# Altium integrated library ST Memory EEPROM Serial.IntLib: 637 symbols (part 9 of 9)
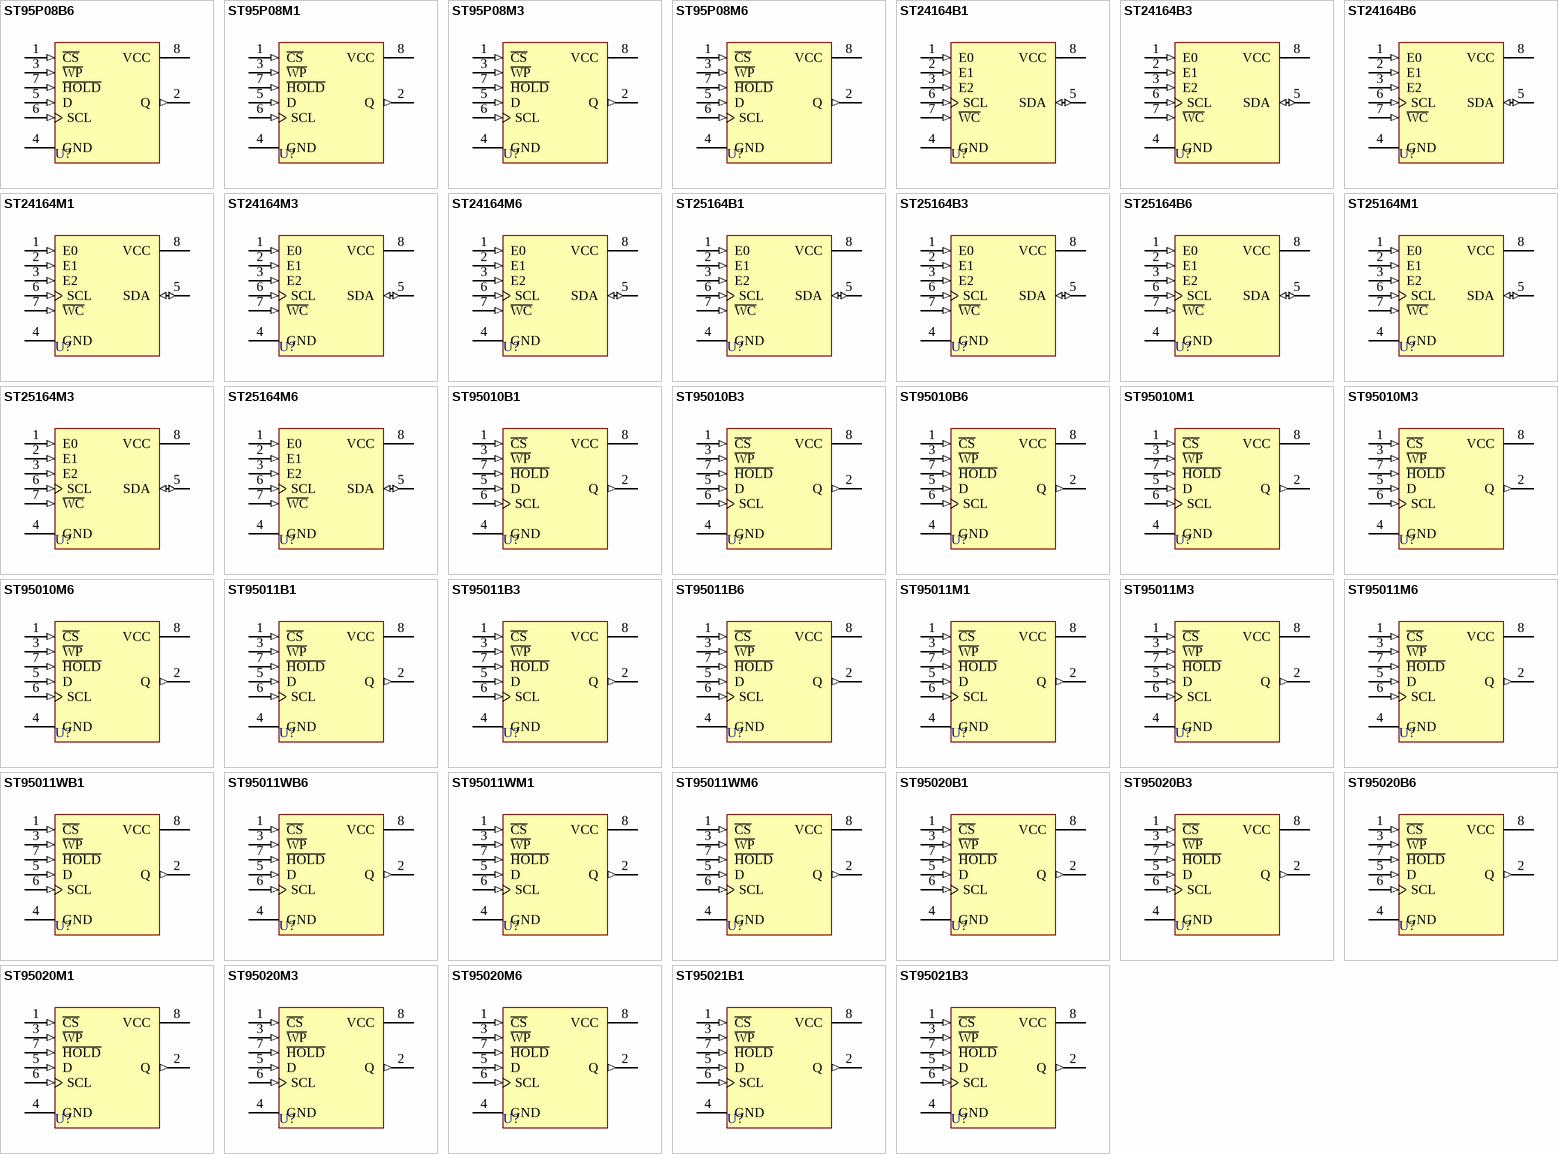
[diagram p23: symbols ST95P08B6 to ST95021B3]

## ST95020M6
designator U?
2K Serial SPI EEPROM with Positive Clock Strobe; Published: 24-Aug-2001; LatestRevisionDate: 6-Jun-2005; LatestRevisionNote: Stylized 3D Model Added.; DatasheetDocument: Jun-1998; PackageDocument: Jul-1999; PackageReference: SOP8; Publisher: Altium Limited; ComponentLink1Description: Manufacturer Link; ComponentLink1URL: http://www.st.com/
footprint SOP8 (Small Outline; 8 Leads; Body Width 3.9 mm; Pitch 1.27 mm)
3D model SOP8 (Small Outline; 8 Leads; Body Width 3.9 mm; Pitch 1.27 mm)
pins: 1 ~{CS} (in), 2 Q (out), 3 ~{WP} (in), 4 GND (power), 5 D (in), 6 SCL (in), 7 ~{HOLD} (in), 8 VCC (power)

## ST95021B1
designator U?
2K Serial SPI EEPROM with Negative Clock Strobe; Published: 24-Aug-2001; LatestRevisionDate: 6-Jun-2005; LatestRevisionNote: Stylized 3D Model Added.; DatasheetDocument: Feb-1997; PackageDocument: Jun-1998; PackageReference: PSDIP8A; Publisher: Altium Limited; ComponentLink1Description: Manufacturer Link; ComponentLink1URL: http://www.st.com/
footprint PSDIP8A (DIP; 8 Leads; Row Spacing 7.62 mm; Pitch 2.54 mm)
3D model PSDIP8A (DIP; 8 Leads; Row Spacing 7.62 mm; Pitch 2.54 mm)
pins: 1 ~{CS} (in), 2 Q (out), 3 ~{WP} (in), 4 GND (power), 5 D (in), 6 SCL (in), 7 ~{HOLD} (in), 8 VCC (power)

## ST95021B3
designator U?
2K Serial SPI EEPROM with Negative Clock Strobe; Published: 24-Aug-2001; LatestRevisionDate: 6-Jun-2005; LatestRevisionNote: Stylized 3D Model Added.; DatasheetDocument: Feb-1997; PackageDocument: Jun-1998; PackageReference: PSDIP8A; Publisher: Altium Limited; ComponentLink1Description: Manufacturer Link; ComponentLink1URL: http://www.st.com/
footprint PSDIP8A (DIP; 8 Leads; Row Spacing 7.62 mm; Pitch 2.54 mm)
3D model PSDIP8A (DIP; 8 Leads; Row Spacing 7.62 mm; Pitch 2.54 mm)
pins: 1 ~{CS} (in), 2 Q (out), 3 ~{WP} (in), 4 GND (power), 5 D (in), 6 SCL (in), 7 ~{HOLD} (in), 8 VCC (power)

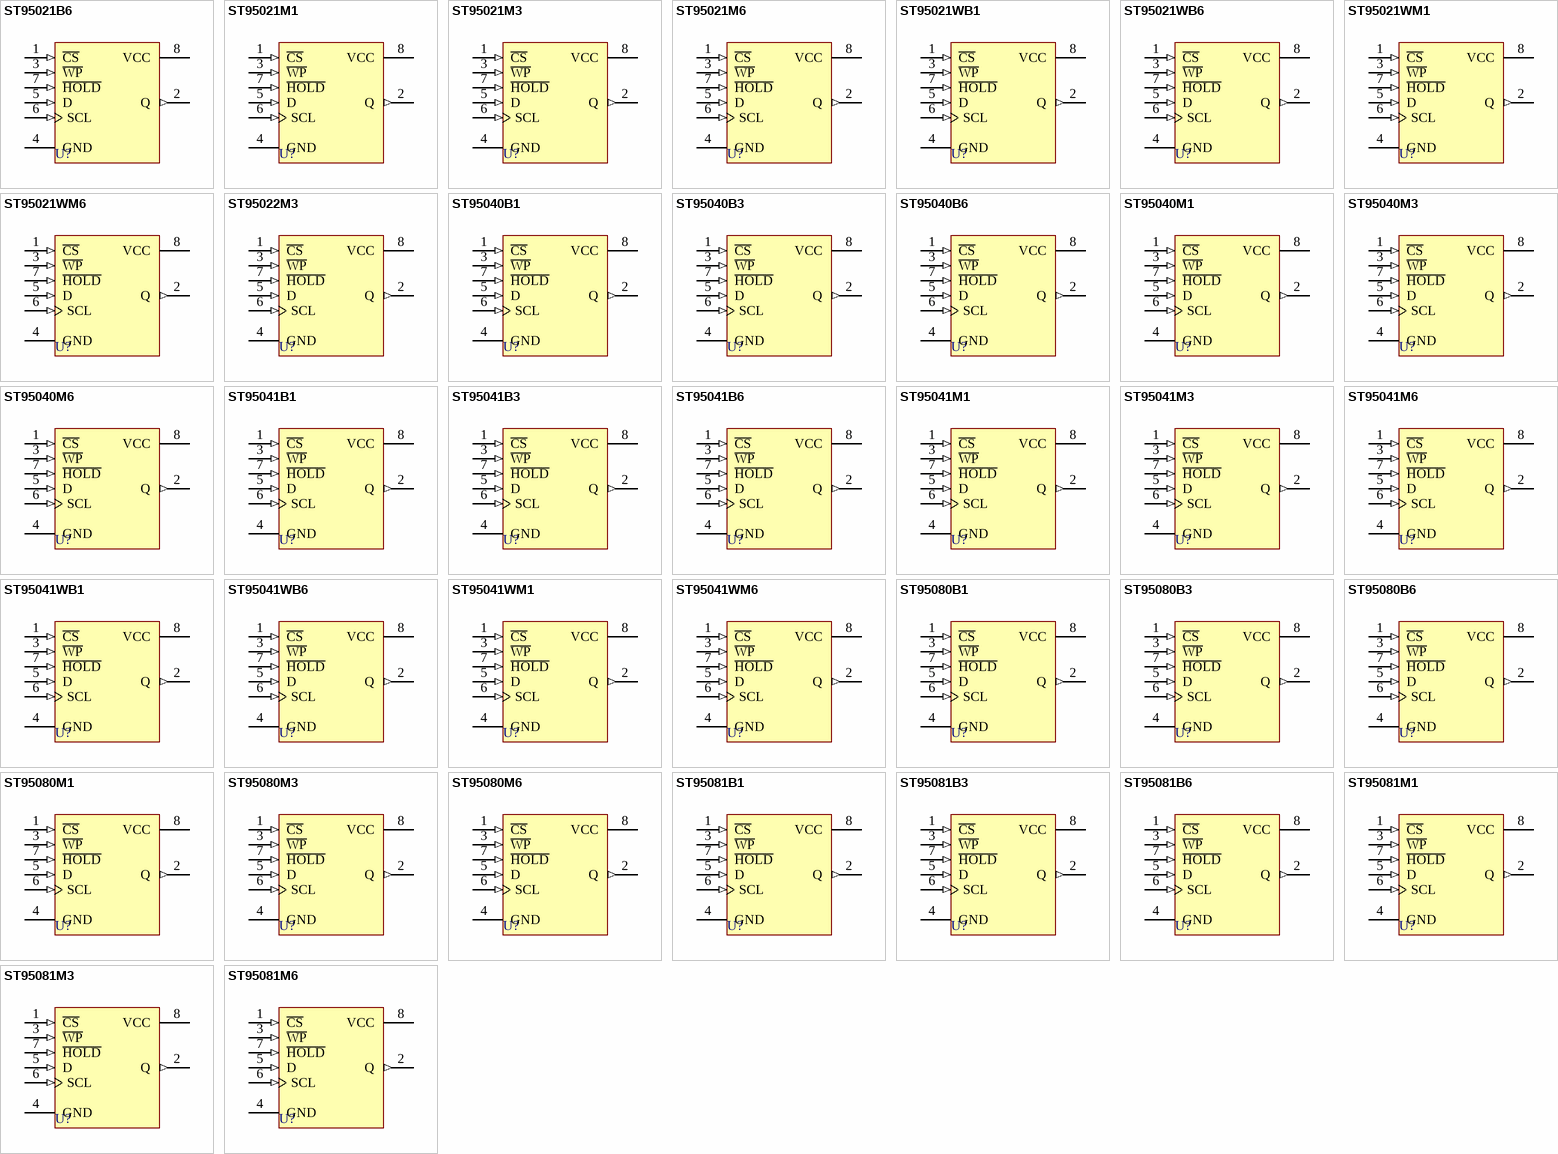
[diagram p15: symbols ST95021B6 to ST95081M6]

## ST95021B6
designator U?
2K Serial SPI EEPROM with Negative Clock Strobe; Published: 24-Aug-2001; LatestRevisionDate: 6-Jun-2005; LatestRevisionNote: Stylized 3D Model Added.; DatasheetDocument: Feb-1997; PackageDocument: Jun-1998; PackageReference: PSDIP8A; Publisher: Altium Limited; ComponentLink1Description: Manufacturer Link; ComponentLink1URL: http://www.st.com/
footprint PSDIP8A (DIP; 8 Leads; Row Spacing 7.62 mm; Pitch 2.54 mm)
3D model PSDIP8A (DIP; 8 Leads; Row Spacing 7.62 mm; Pitch 2.54 mm)
pins: 1 ~{CS} (in), 2 Q (out), 3 ~{WP} (in), 4 GND (power), 5 D (in), 6 SCL (in), 7 ~{HOLD} (in), 8 VCC (power)

## ST95021M1
designator U?
2K Serial SPI EEPROM with Negative Clock Strobe; Published: 24-Aug-2001; LatestRevisionDate: 6-Jun-2005; LatestRevisionNote: Stylized 3D Model Added.; DatasheetDocument: Feb-1997; PackageDocument: Jul-1999; PackageReference: SOP8; Publisher: Altium Limited; ComponentLink1Description: Manufacturer Link; ComponentLink1URL: http://www.st.com/
footprint SOP8 (Small Outline; 8 Leads; Body Width 3.9 mm; Pitch 1.27 mm)
3D model SOP8 (Small Outline; 8 Leads; Body Width 3.9 mm; Pitch 1.27 mm)
pins: 1 ~{CS} (in), 2 Q (out), 3 ~{WP} (in), 4 GND (power), 5 D (in), 6 SCL (in), 7 ~{HOLD} (in), 8 VCC (power)

## ST95021M3
designator U?
2K Serial SPI EEPROM with Negative Clock Strobe; Published: 24-Aug-2001; LatestRevisionDate: 6-Jun-2005; LatestRevisionNote: Stylized 3D Model Added.; DatasheetDocument: Feb-1997; PackageDocument: Jul-1999; PackageReference: SOP8; Publisher: Altium Limited; ComponentLink1Description: Manufacturer Link; ComponentLink1URL: http://www.st.com/
footprint SOP8 (Small Outline; 8 Leads; Body Width 3.9 mm; Pitch 1.27 mm)
3D model SOP8 (Small Outline; 8 Leads; Body Width 3.9 mm; Pitch 1.27 mm)
pins: 1 ~{CS} (in), 2 Q (out), 3 ~{WP} (in), 4 GND (power), 5 D (in), 6 SCL (in), 7 ~{HOLD} (in), 8 VCC (power)

## ST95021M6
designator U?
2K Serial SPI EEPROM with Negative Clock Strobe; Published: 24-Aug-2001; LatestRevisionDate: 6-Jun-2005; LatestRevisionNote: Stylized 3D Model Added.; DatasheetDocument: Feb-1997; PackageDocument: Jul-1999; PackageReference: SOP8; Publisher: Altium Limited; ComponentLink1Description: Manufacturer Link; ComponentLink1URL: http://www.st.com/
footprint SOP8 (Small Outline; 8 Leads; Body Width 3.9 mm; Pitch 1.27 mm)
3D model SOP8 (Small Outline; 8 Leads; Body Width 3.9 mm; Pitch 1.27 mm)
pins: 1 ~{CS} (in), 2 Q (out), 3 ~{WP} (in), 4 GND (power), 5 D (in), 6 SCL (in), 7 ~{HOLD} (in), 8 VCC (power)

## ST95021WB1
designator U?
2K Serial SPI EEPROM with Negative Clock Strobe; Published: 24-Aug-2001; LatestRevisionDate: 6-Jun-2005; LatestRevisionNote: Stylized 3D Model Added.; DatasheetDocument: Feb-1997; PackageDocument: Jun-1998; PackageReference: PSDIP8A; Publisher: Altium Limited; ComponentLink1Description: Manufacturer Link; ComponentLink1URL: http://www.st.com/
footprint PSDIP8A (DIP; 8 Leads; Row Spacing 7.62 mm; Pitch 2.54 mm)
3D model PSDIP8A (DIP; 8 Leads; Row Spacing 7.62 mm; Pitch 2.54 mm)
pins: 1 ~{CS} (in), 2 Q (out), 3 ~{WP} (in), 4 GND (power), 5 D (in), 6 SCL (in), 7 ~{HOLD} (in), 8 VCC (power)

## ST95021WB6
designator U?
2K Serial SPI EEPROM with Negative Clock Strobe; Published: 24-Aug-2001; LatestRevisionDate: 6-Jun-2005; LatestRevisionNote: Stylized 3D Model Added.; DatasheetDocument: Feb-1997; PackageDocument: Jun-1998; PackageReference: PSDIP8A; Publisher: Altium Limited; ComponentLink1Description: Manufacturer Link; ComponentLink1URL: http://www.st.com/
footprint PSDIP8A (DIP; 8 Leads; Row Spacing 7.62 mm; Pitch 2.54 mm)
3D model PSDIP8A (DIP; 8 Leads; Row Spacing 7.62 mm; Pitch 2.54 mm)
pins: 1 ~{CS} (in), 2 Q (out), 3 ~{WP} (in), 4 GND (power), 5 D (in), 6 SCL (in), 7 ~{HOLD} (in), 8 VCC (power)

## ST95021WM1
designator U?
2K Serial SPI EEPROM with Negative Clock Strobe; Published: 24-Aug-2001; LatestRevisionDate: 6-Jun-2005; LatestRevisionNote: Stylized 3D Model Added.; DatasheetDocument: Feb-1997; PackageDocument: Jul-1999; PackageReference: SOP8; Publisher: Altium Limited; ComponentLink1Description: Manufacturer Link; ComponentLink1URL: http://www.st.com/
footprint SOP8 (Small Outline; 8 Leads; Body Width 3.9 mm; Pitch 1.27 mm)
3D model SOP8 (Small Outline; 8 Leads; Body Width 3.9 mm; Pitch 1.27 mm)
pins: 1 ~{CS} (in), 2 Q (out), 3 ~{WP} (in), 4 GND (power), 5 D (in), 6 SCL (in), 7 ~{HOLD} (in), 8 VCC (power)

## ST95021WM6
designator U?
2K Serial SPI EEPROM with Negative Clock Strobe; Published: 24-Aug-2001; LatestRevisionDate: 6-Jun-2005; LatestRevisionNote: Stylized 3D Model Added.; DatasheetDocument: Feb-1997; PackageDocument: Jul-1999; PackageReference: SOP8; Publisher: Altium Limited; ComponentLink1Description: Manufacturer Link; ComponentLink1URL: http://www.st.com/
footprint SOP8 (Small Outline; 8 Leads; Body Width 3.9 mm; Pitch 1.27 mm)
3D model SOP8 (Small Outline; 8 Leads; Body Width 3.9 mm; Pitch 1.27 mm)
pins: 1 ~{CS} (in), 2 Q (out), 3 ~{WP} (in), 4 GND (power), 5 D (in), 6 SCL (in), 7 ~{HOLD} (in), 8 VCC (power)

## ST95022M3
designator U?
2Kbit Serial SPI EEPROM with High Speed Clock; Published: 24-Aug-2001; LatestRevisionDate: 6-Jun-2005; LatestRevisionNote: Stylized 3D Model Added.; DatasheetDocument: Oct-1997; PackageDocument: Jul-1999; PackageReference: SOP8; Publisher: Altium Limited; ComponentLink1Description: Manufacturer Link; ComponentLink1URL: http://www.st.com/
footprint SOP8 (Small Outline; 8 Leads; Body Width 3.9 mm; Pitch 1.27 mm)
3D model SOP8 (Small Outline; 8 Leads; Body Width 3.9 mm; Pitch 1.27 mm)
pins: 1 ~{CS} (in), 2 Q (out), 3 ~{WP} (in), 4 GND (power), 5 D (in), 6 SCL (in), 7 ~{HOLD} (in), 8 VCC (power)

## ST95040B1
designator U?
4K Serial SPI EEPROM with Positive Clock Strobe; Published: 24-Aug-2001; LatestRevisionDate: 6-Jun-2005; LatestRevisionNote: Stylized 3D Model Added.; DatasheetDocument: Jun-1998; PackageDocument: Jun-1998; PackageReference: PSDIP8A; Publisher: Altium Limited; ComponentLink1Description: Manufacturer Link; ComponentLink1URL: http://www.st.com/
footprint PSDIP8A (DIP; 8 Leads; Row Spacing 7.62 mm; Pitch 2.54 mm)
3D model PSDIP8A (DIP; 8 Leads; Row Spacing 7.62 mm; Pitch 2.54 mm)
pins: 1 ~{CS} (in), 2 Q (out), 3 ~{WP} (in), 4 GND (power), 5 D (in), 6 SCL (in), 7 ~{HOLD} (in), 8 VCC (power)

## ST95040B3
designator U?
4K Serial SPI EEPROM with Positive Clock Strobe; Published: 24-Aug-2001; LatestRevisionDate: 6-Jun-2005; LatestRevisionNote: Stylized 3D Model Added.; DatasheetDocument: Jun-1998; PackageDocument: Jun-1998; PackageReference: PSDIP8A; Publisher: Altium Limited; ComponentLink1Description: Manufacturer Link; ComponentLink1URL: http://www.st.com/
footprint PSDIP8A (DIP; 8 Leads; Row Spacing 7.62 mm; Pitch 2.54 mm)
3D model PSDIP8A (DIP; 8 Leads; Row Spacing 7.62 mm; Pitch 2.54 mm)
pins: 1 ~{CS} (in), 2 Q (out), 3 ~{WP} (in), 4 GND (power), 5 D (in), 6 SCL (in), 7 ~{HOLD} (in), 8 VCC (power)

## ST95040B6
designator U?
4K Serial SPI EEPROM with Positive Clock Strobe; Published: 24-Aug-2001; LatestRevisionDate: 6-Jun-2005; LatestRevisionNote: Stylized 3D Model Added.; DatasheetDocument: Jun-1998; PackageDocument: Jun-1998; PackageReference: PSDIP8A; Publisher: Altium Limited; ComponentLink1Description: Manufacturer Link; ComponentLink1URL: http://www.st.com/
footprint PSDIP8A (DIP; 8 Leads; Row Spacing 7.62 mm; Pitch 2.54 mm)
3D model PSDIP8A (DIP; 8 Leads; Row Spacing 7.62 mm; Pitch 2.54 mm)
pins: 1 ~{CS} (in), 2 Q (out), 3 ~{WP} (in), 4 GND (power), 5 D (in), 6 SCL (in), 7 ~{HOLD} (in), 8 VCC (power)

## ST95040M1
designator U?
4K Serial SPI EEPROM with Positive Clock Strobe; Published: 24-Aug-2001; LatestRevisionDate: 6-Jun-2005; LatestRevisionNote: Stylized 3D Model Added.; DatasheetDocument: Jun-1998; PackageDocument: Jul-1999; PackageReference: SOP8; Publisher: Altium Limited; ComponentLink1Description: Manufacturer Link; ComponentLink1URL: http://www.st.com/
footprint SOP8 (Small Outline; 8 Leads; Body Width 3.9 mm; Pitch 1.27 mm)
3D model SOP8 (Small Outline; 8 Leads; Body Width 3.9 mm; Pitch 1.27 mm)
pins: 1 ~{CS} (in), 2 Q (out), 3 ~{WP} (in), 4 GND (power), 5 D (in), 6 SCL (in), 7 ~{HOLD} (in), 8 VCC (power)

## ST95040M3
designator U?
4K Serial SPI EEPROM with Positive Clock Strobe; Published: 24-Aug-2001; LatestRevisionDate: 6-Jun-2005; LatestRevisionNote: Stylized 3D Model Added.; DatasheetDocument: Jun-1998; PackageDocument: Jul-1999; PackageReference: SOP8; Publisher: Altium Limited; ComponentLink1Description: Manufacturer Link; ComponentLink1URL: http://www.st.com/
footprint SOP8 (Small Outline; 8 Leads; Body Width 3.9 mm; Pitch 1.27 mm)
3D model SOP8 (Small Outline; 8 Leads; Body Width 3.9 mm; Pitch 1.27 mm)
pins: 1 ~{CS} (in), 2 Q (out), 3 ~{WP} (in), 4 GND (power), 5 D (in), 6 SCL (in), 7 ~{HOLD} (in), 8 VCC (power)

## ST95040M6
designator U?
4K Serial SPI EEPROM with Positive Clock Strobe; Published: 24-Aug-2001; LatestRevisionDate: 6-Jun-2005; LatestRevisionNote: Stylized 3D Model Added.; DatasheetDocument: Jun-1998; PackageDocument: Jul-1999; PackageReference: SOP8; Publisher: Altium Limited; ComponentLink1Description: Manufacturer Link; ComponentLink1URL: http://www.st.com/
footprint SOP8 (Small Outline; 8 Leads; Body Width 3.9 mm; Pitch 1.27 mm)
3D model SOP8 (Small Outline; 8 Leads; Body Width 3.9 mm; Pitch 1.27 mm)
pins: 1 ~{CS} (in), 2 Q (out), 3 ~{WP} (in), 4 GND (power), 5 D (in), 6 SCL (in), 7 ~{HOLD} (in), 8 VCC (power)

## ST95041B1
designator U?
4K Serial SPI EEPROM with Negative Clock Strobe; Published: 24-Aug-2001; LatestRevisionDate: 6-Jun-2005; LatestRevisionNote: Stylized 3D Model Added.; DatasheetDocument: Feb-1997; PackageDocument: Jun-1998; PackageReference: PSDIP8A; Publisher: Altium Limited; ComponentLink1Description: Manufacturer Link; ComponentLink1URL: http://www.st.com/
footprint PSDIP8A (DIP; 8 Leads; Row Spacing 7.62 mm; Pitch 2.54 mm)
3D model PSDIP8A (DIP; 8 Leads; Row Spacing 7.62 mm; Pitch 2.54 mm)
pins: 1 ~{CS} (in), 2 Q (out), 3 ~{WP} (in), 4 GND (power), 5 D (in), 6 SCL (in), 7 ~{HOLD} (in), 8 VCC (power)

## ST95041B3
designator U?
4K Serial SPI EEPROM with Negative Clock Strobe; Published: 24-Aug-2001; LatestRevisionDate: 6-Jun-2005; LatestRevisionNote: Stylized 3D Model Added.; DatasheetDocument: Feb-1997; PackageDocument: Jun-1998; PackageReference: PSDIP8A; Publisher: Altium Limited; ComponentLink1Description: Manufacturer Link; ComponentLink1URL: http://www.st.com/
footprint PSDIP8A (DIP; 8 Leads; Row Spacing 7.62 mm; Pitch 2.54 mm)
3D model PSDIP8A (DIP; 8 Leads; Row Spacing 7.62 mm; Pitch 2.54 mm)
pins: 1 ~{CS} (in), 2 Q (out), 3 ~{WP} (in), 4 GND (power), 5 D (in), 6 SCL (in), 7 ~{HOLD} (in), 8 VCC (power)

## ST95041B6
designator U?
4K Serial SPI EEPROM with Negative Clock Strobe; Published: 24-Aug-2001; LatestRevisionDate: 6-Jun-2005; LatestRevisionNote: Stylized 3D Model Added.; DatasheetDocument: Feb-1997; PackageDocument: Jun-1998; PackageReference: PSDIP8A; Publisher: Altium Limited; ComponentLink1Description: Manufacturer Link; ComponentLink1URL: http://www.st.com/
footprint PSDIP8A (DIP; 8 Leads; Row Spacing 7.62 mm; Pitch 2.54 mm)
3D model PSDIP8A (DIP; 8 Leads; Row Spacing 7.62 mm; Pitch 2.54 mm)
pins: 1 ~{CS} (in), 2 Q (out), 3 ~{WP} (in), 4 GND (power), 5 D (in), 6 SCL (in), 7 ~{HOLD} (in), 8 VCC (power)

## ST95041M1
designator U?
4K Serial SPI EEPROM with Negative Clock Strobe; Published: 24-Aug-2001; LatestRevisionDate: 6-Jun-2005; LatestRevisionNote: Stylized 3D Model Added.; DatasheetDocument: Feb-1997; PackageDocument: Jul-1999; PackageReference: SOP8; Publisher: Altium Limited; ComponentLink1Description: Manufacturer Link; ComponentLink1URL: http://www.st.com/
footprint SOP8 (Small Outline; 8 Leads; Body Width 3.9 mm; Pitch 1.27 mm)
3D model SOP8 (Small Outline; 8 Leads; Body Width 3.9 mm; Pitch 1.27 mm)
pins: 1 ~{CS} (in), 2 Q (out), 3 ~{WP} (in), 4 GND (power), 5 D (in), 6 SCL (in), 7 ~{HOLD} (in), 8 VCC (power)

## ST95041M3
designator U?
4K Serial SPI EEPROM with Negative Clock Strobe; Published: 24-Aug-2001; LatestRevisionDate: 6-Jun-2005; LatestRevisionNote: Stylized 3D Model Added.; DatasheetDocument: Feb-1997; PackageDocument: Jul-1999; PackageReference: SOP8; Publisher: Altium Limited; ComponentLink1Description: Manufacturer Link; ComponentLink1URL: http://www.st.com/
footprint SOP8 (Small Outline; 8 Leads; Body Width 3.9 mm; Pitch 1.27 mm)
3D model SOP8 (Small Outline; 8 Leads; Body Width 3.9 mm; Pitch 1.27 mm)
pins: 1 ~{CS} (in), 2 Q (out), 3 ~{WP} (in), 4 GND (power), 5 D (in), 6 SCL (in), 7 ~{HOLD} (in), 8 VCC (power)

## ST95041M6
designator U?
4K Serial SPI EEPROM with Negative Clock Strobe; Published: 24-Aug-2001; LatestRevisionDate: 6-Jun-2005; LatestRevisionNote: Stylized 3D Model Added.; DatasheetDocument: Feb-1997; PackageDocument: Jul-1999; PackageReference: SOP8; Publisher: Altium Limited; ComponentLink1Description: Manufacturer Link; ComponentLink1URL: http://www.st.com/
footprint SOP8 (Small Outline; 8 Leads; Body Width 3.9 mm; Pitch 1.27 mm)
3D model SOP8 (Small Outline; 8 Leads; Body Width 3.9 mm; Pitch 1.27 mm)
pins: 1 ~{CS} (in), 2 Q (out), 3 ~{WP} (in), 4 GND (power), 5 D (in), 6 SCL (in), 7 ~{HOLD} (in), 8 VCC (power)

## ST95041WB1
designator U?
4K Serial SPI EEPROM with Negative Clock Strobe; Published: 24-Aug-2001; LatestRevisionDate: 6-Jun-2005; LatestRevisionNote: Stylized 3D Model Added.; DatasheetDocument: Feb-1997; PackageDocument: Jun-1998; PackageReference: PSDIP8A; Publisher: Altium Limited; ComponentLink1Description: Manufacturer Link; ComponentLink1URL: http://www.st.com/
footprint PSDIP8A (DIP; 8 Leads; Row Spacing 7.62 mm; Pitch 2.54 mm)
3D model PSDIP8A (DIP; 8 Leads; Row Spacing 7.62 mm; Pitch 2.54 mm)
pins: 1 ~{CS} (in), 2 Q (out), 3 ~{WP} (in), 4 GND (power), 5 D (in), 6 SCL (in), 7 ~{HOLD} (in), 8 VCC (power)

## ST95041WB6
designator U?
4K Serial SPI EEPROM with Negative Clock Strobe; Published: 24-Aug-2001; LatestRevisionDate: 6-Jun-2005; LatestRevisionNote: Stylized 3D Model Added.; DatasheetDocument: Feb-1997; PackageDocument: Jun-1998; PackageReference: PSDIP8A; Publisher: Altium Limited; ComponentLink1Description: Manufacturer Link; ComponentLink1URL: http://www.st.com/
footprint PSDIP8A (DIP; 8 Leads; Row Spacing 7.62 mm; Pitch 2.54 mm)
3D model PSDIP8A (DIP; 8 Leads; Row Spacing 7.62 mm; Pitch 2.54 mm)
pins: 1 ~{CS} (in), 2 Q (out), 3 ~{WP} (in), 4 GND (power), 5 D (in), 6 SCL (in), 7 ~{HOLD} (in), 8 VCC (power)

## ST95041WM1
designator U?
4K Serial SPI EEPROM with Negative Clock Strobe; Published: 24-Aug-2001; LatestRevisionDate: 6-Jun-2005; LatestRevisionNote: Stylized 3D Model Added.; DatasheetDocument: Feb-1997; PackageDocument: Jul-1999; PackageReference: SOP8; Publisher: Altium Limited; ComponentLink1Description: Manufacturer Link; ComponentLink1URL: http://www.st.com/
footprint SOP8 (Small Outline; 8 Leads; Body Width 3.9 mm; Pitch 1.27 mm)
3D model SOP8 (Small Outline; 8 Leads; Body Width 3.9 mm; Pitch 1.27 mm)
pins: 1 ~{CS} (in), 2 Q (out), 3 ~{WP} (in), 4 GND (power), 5 D (in), 6 SCL (in), 7 ~{HOLD} (in), 8 VCC (power)

## ST95041WM6
designator U?
4K Serial SPI EEPROM with Negative Clock Strobe; Published: 24-Aug-2001; LatestRevisionDate: 6-Jun-2005; LatestRevisionNote: Stylized 3D Model Added.; DatasheetDocument: Feb-1997; PackageDocument: Jul-1999; PackageReference: SOP8; Publisher: Altium Limited; ComponentLink1Description: Manufacturer Link; ComponentLink1URL: http://www.st.com/
footprint SOP8 (Small Outline; 8 Leads; Body Width 3.9 mm; Pitch 1.27 mm)
3D model SOP8 (Small Outline; 8 Leads; Body Width 3.9 mm; Pitch 1.27 mm)
pins: 1 ~{CS} (in), 2 Q (out), 3 ~{WP} (in), 4 GND (power), 5 D (in), 6 SCL (in), 7 ~{HOLD} (in), 8 VCC (power)

## ST95080B1
designator U?
Serial Access SPI Bus 8K (1024 x 8) EEPROM; Published: 24-Aug-2001; LatestRevisionDate: 6-Jun-2005; LatestRevisionNote: Stylized 3D Model Added.; DatasheetDocument: Oct-1995; PackageDocument: Jun-1998; PackageReference: PSDIP8A; Publisher: Altium Limited; ComponentLink1Description: Manufacturer Link; ComponentLink1URL: http://www.st.com/
footprint PSDIP8A (DIP; 8 Leads; Row Spacing 7.62 mm; Pitch 2.54 mm)
3D model PSDIP8A (DIP; 8 Leads; Row Spacing 7.62 mm; Pitch 2.54 mm)
pins: 1 ~{CS} (in), 2 Q (out), 3 ~{WP} (in), 4 GND (power), 5 D (in), 6 SCL (in), 7 ~{HOLD} (in), 8 VCC (power)

## ST95080B3
designator U?
Serial Access SPI Bus 8K (1024 x 8) EEPROM; Published: 24-Aug-2001; LatestRevisionDate: 6-Jun-2005; LatestRevisionNote: Stylized 3D Model Added.; DatasheetDocument: Oct-1995; PackageDocument: Jun-1998; PackageReference: PSDIP8A; Publisher: Altium Limited; ComponentLink1Description: Manufacturer Link; ComponentLink1URL: http://www.st.com/
footprint PSDIP8A (DIP; 8 Leads; Row Spacing 7.62 mm; Pitch 2.54 mm)
3D model PSDIP8A (DIP; 8 Leads; Row Spacing 7.62 mm; Pitch 2.54 mm)
pins: 1 ~{CS} (in), 2 Q (out), 3 ~{WP} (in), 4 GND (power), 5 D (in), 6 SCL (in), 7 ~{HOLD} (in), 8 VCC (power)

## ST95080B6
designator U?
Serial Access SPI Bus 8K (1024 x 8) EEPROM; Published: 24-Aug-2001; LatestRevisionDate: 6-Jun-2005; LatestRevisionNote: Stylized 3D Model Added.; DatasheetDocument: Oct-1995; PackageDocument: Jun-1998; PackageReference: PSDIP8A; Publisher: Altium Limited; ComponentLink1Description: Manufacturer Link; ComponentLink1URL: http://www.st.com/
footprint PSDIP8A (DIP; 8 Leads; Row Spacing 7.62 mm; Pitch 2.54 mm)
3D model PSDIP8A (DIP; 8 Leads; Row Spacing 7.62 mm; Pitch 2.54 mm)
pins: 1 ~{CS} (in), 2 Q (out), 3 ~{WP} (in), 4 GND (power), 5 D (in), 6 SCL (in), 7 ~{HOLD} (in), 8 VCC (power)

## ST95080M1
designator U?
Serial Access SPI Bus 8K (1024 x 8) EEPROM; Published: 24-Aug-2001; LatestRevisionDate: 6-Jun-2005; LatestRevisionNote: Stylized 3D Model Added.; DatasheetDocument: Oct-1995; PackageDocument: Jul-1999; PackageReference: SOP8; Publisher: Altium Limited; ComponentLink1Description: Manufacturer Link; ComponentLink1URL: http://www.st.com/
footprint SOP8 (Small Outline; 8 Leads; Body Width 3.9 mm; Pitch 1.27 mm)
3D model SOP8 (Small Outline; 8 Leads; Body Width 3.9 mm; Pitch 1.27 mm)
pins: 1 ~{CS} (in), 2 Q (out), 3 ~{WP} (in), 4 GND (power), 5 D (in), 6 SCL (in), 7 ~{HOLD} (in), 8 VCC (power)

## ST95080M3
designator U?
Serial Access SPI Bus 8K (1024 x 8) EEPROM; Published: 24-Aug-2001; LatestRevisionDate: 6-Jun-2005; LatestRevisionNote: Stylized 3D Model Added.; DatasheetDocument: Oct-1995; PackageDocument: Jul-1999; PackageReference: SOP8; Publisher: Altium Limited; ComponentLink1Description: Manufacturer Link; ComponentLink1URL: http://www.st.com/
footprint SOP8 (Small Outline; 8 Leads; Body Width 3.9 mm; Pitch 1.27 mm)
3D model SOP8 (Small Outline; 8 Leads; Body Width 3.9 mm; Pitch 1.27 mm)
pins: 1 ~{CS} (in), 2 Q (out), 3 ~{WP} (in), 4 GND (power), 5 D (in), 6 SCL (in), 7 ~{HOLD} (in), 8 VCC (power)

## ST95080M6
designator U?
Serial Access SPI Bus 8K (1024 x 8) EEPROM; Published: 24-Aug-2001; LatestRevisionDate: 6-Jun-2005; LatestRevisionNote: Stylized 3D Model Added.; DatasheetDocument: Oct-1995; PackageDocument: Jul-1999; PackageReference: SOP8; Publisher: Altium Limited; ComponentLink1Description: Manufacturer Link; ComponentLink1URL: http://www.st.com/
footprint SOP8 (Small Outline; 8 Leads; Body Width 3.9 mm; Pitch 1.27 mm)
3D model SOP8 (Small Outline; 8 Leads; Body Width 3.9 mm; Pitch 1.27 mm)
pins: 1 ~{CS} (in), 2 Q (out), 3 ~{WP} (in), 4 GND (power), 5 D (in), 6 SCL (in), 7 ~{HOLD} (in), 8 VCC (power)

## ST95081B1
designator U?
Serial Access SPI Bus 8K (1024 x 8) EEPROM; Published: 24-Aug-2001; LatestRevisionDate: 6-Jun-2005; LatestRevisionNote: Stylized 3D Model Added.; DatasheetDocument: Oct-1995; PackageDocument: Jun-1998; PackageReference: PSDIP8A; Publisher: Altium Limited; ComponentLink1Description: Manufacturer Link; ComponentLink1URL: http://www.st.com/
footprint PSDIP8A (DIP; 8 Leads; Row Spacing 7.62 mm; Pitch 2.54 mm)
3D model PSDIP8A (DIP; 8 Leads; Row Spacing 7.62 mm; Pitch 2.54 mm)
pins: 1 ~{CS} (in), 2 Q (out), 3 ~{WP} (in), 4 GND (power), 5 D (in), 6 SCL (in), 7 ~{HOLD} (in), 8 VCC (power)

## ST95081B3
designator U?
Serial Access SPI Bus 8K (1024 x 8) EEPROM; Published: 24-Aug-2001; LatestRevisionDate: 6-Jun-2005; LatestRevisionNote: Stylized 3D Model Added.; DatasheetDocument: Oct-1995; PackageDocument: Jun-1998; PackageReference: PSDIP8A; Publisher: Altium Limited; ComponentLink1Description: Manufacturer Link; ComponentLink1URL: http://www.st.com/
footprint PSDIP8A (DIP; 8 Leads; Row Spacing 7.62 mm; Pitch 2.54 mm)
3D model PSDIP8A (DIP; 8 Leads; Row Spacing 7.62 mm; Pitch 2.54 mm)
pins: 1 ~{CS} (in), 2 Q (out), 3 ~{WP} (in), 4 GND (power), 5 D (in), 6 SCL (in), 7 ~{HOLD} (in), 8 VCC (power)

## ST95081B6
designator U?
Serial Access SPI Bus 8K (1024 x 8) EEPROM; Published: 24-Aug-2001; LatestRevisionDate: 6-Jun-2005; LatestRevisionNote: Stylized 3D Model Added.; DatasheetDocument: Oct-1995; PackageDocument: Jun-1998; PackageReference: PSDIP8A; Publisher: Altium Limited; ComponentLink1Description: Manufacturer Link; ComponentLink1URL: http://www.st.com/
footprint PSDIP8A (DIP; 8 Leads; Row Spacing 7.62 mm; Pitch 2.54 mm)
3D model PSDIP8A (DIP; 8 Leads; Row Spacing 7.62 mm; Pitch 2.54 mm)
pins: 1 ~{CS} (in), 2 Q (out), 3 ~{WP} (in), 4 GND (power), 5 D (in), 6 SCL (in), 7 ~{HOLD} (in), 8 VCC (power)

## ST95081M1
designator U?
Serial Access SPI Bus 8K (1024 x 8) EEPROM; Published: 24-Aug-2001; LatestRevisionDate: 6-Jun-2005; LatestRevisionNote: Stylized 3D Model Added.; DatasheetDocument: Oct-1995; PackageDocument: Jul-1999; PackageReference: SOP8; Publisher: Altium Limited; ComponentLink1Description: Manufacturer Link; ComponentLink1URL: http://www.st.com/
footprint SOP8 (Small Outline; 8 Leads; Body Width 3.9 mm; Pitch 1.27 mm)
3D model SOP8 (Small Outline; 8 Leads; Body Width 3.9 mm; Pitch 1.27 mm)
pins: 1 ~{CS} (in), 2 Q (out), 3 ~{WP} (in), 4 GND (power), 5 D (in), 6 SCL (in), 7 ~{HOLD} (in), 8 VCC (power)

## ST95081M3
designator U?
Serial Access SPI Bus 8K (1024 x 8) EEPROM; Published: 24-Aug-2001; LatestRevisionDate: 6-Jun-2005; LatestRevisionNote: Stylized 3D Model Added.; DatasheetDocument: Oct-1995; PackageDocument: Jul-1999; PackageReference: SOP8; Publisher: Altium Limited; ComponentLink1Description: Manufacturer Link; ComponentLink1URL: http://www.st.com/
footprint SOP8 (Small Outline; 8 Leads; Body Width 3.9 mm; Pitch 1.27 mm)
3D model SOP8 (Small Outline; 8 Leads; Body Width 3.9 mm; Pitch 1.27 mm)
pins: 1 ~{CS} (in), 2 Q (out), 3 ~{WP} (in), 4 GND (power), 5 D (in), 6 SCL (in), 7 ~{HOLD} (in), 8 VCC (power)

## ST95081M6
designator U?
Serial Access SPI Bus 8K (1024 x 8) EEPROM; Published: 24-Aug-2001; LatestRevisionDate: 6-Jun-2005; LatestRevisionNote: Stylized 3D Model Added.; DatasheetDocument: Oct-1995; PackageDocument: Jul-1999; PackageReference: SOP8; Publisher: Altium Limited; ComponentLink1Description: Manufacturer Link; ComponentLink1URL: http://www.st.com/
footprint SOP8 (Small Outline; 8 Leads; Body Width 3.9 mm; Pitch 1.27 mm)
3D model SOP8 (Small Outline; 8 Leads; Body Width 3.9 mm; Pitch 1.27 mm)
pins: 1 ~{CS} (in), 2 Q (out), 3 ~{WP} (in), 4 GND (power), 5 D (in), 6 SCL (in), 7 ~{HOLD} (in), 8 VCC (power)